# EAGLE library part RX-AUDIO-2.4 (library aurel)
MODULE, RECEIVER, 2.4GHZ, AUDIO Development Tool Type: Hardware - Module Kit Features: 2.5GHz Frequency, Compatible with Digital Audio Transmitter TX-AUDIO-2.4 Tool / Board Application: Digital Audio Receiver Tool / Board Applications: Ideal to Drive Wireless Speaker, Home Theatre, Headphone Amplifier Type: Digital Audio Receiver url <http://ro.farnell.com/jsp/search/productdetail.jsp?SKU=1699493>
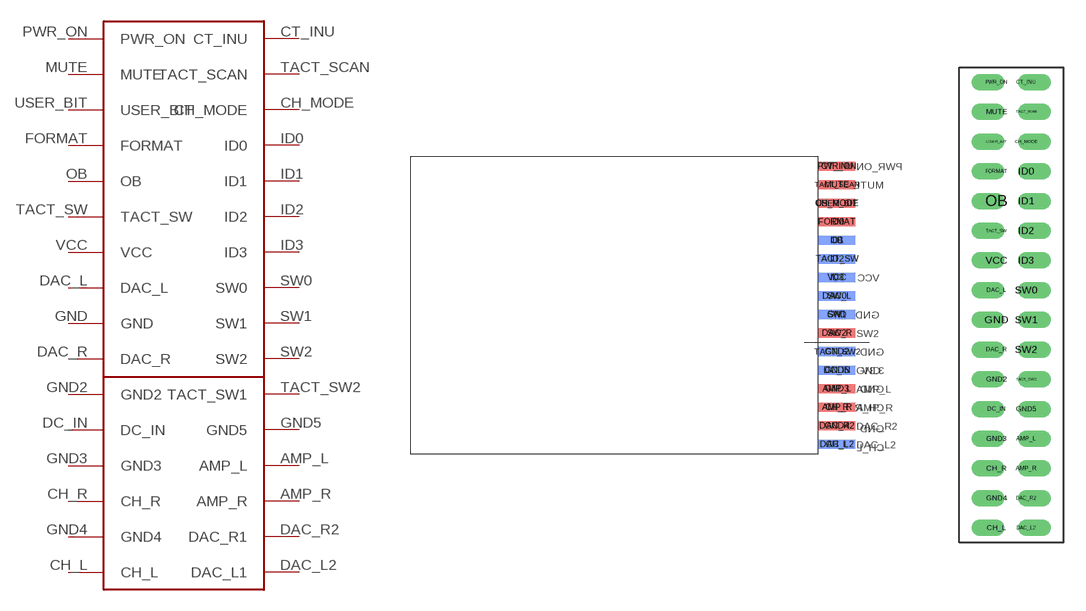
[diagram p1: symbol with the pads of AUREL-RX-AUDIO-2.4GHZ; footprints AUREL-RX-AUDIO-2.4GHZ, AUREL_RX-AUDIO-2.4GH-TRH]

Designator prefix -

## RX-AUDIO-2.4HORIZONTALHORIZONTAL  [AUREL-RX-AUDIO-2.4GHZ]
AMP_L  AMP_L
AMP_R  AMP_R
CH_L  CH_L
CH_MODE  CH_MODE
CH_R  CH_R
CT_INU  CT_INU
DAC_L  DAC_L
DAC_L2  DAC_L1
DAC_R  DAC_R
DAC_R2  DAC_R1
DC_IN  DC_IN
FORMAT  FORMAT
GND  GND
GND2  GND2
GND3  GND3
GND4  GND4
GND5  GND5
ID0  ID0
ID1  ID1
ID2  ID2
ID3  ID3
MUTE  MUTE
OB  OB
PWR_ON  PWR_ON
SW0  SW0
SW1  SW1
SW2  SW2
TACT_SCAN  TACT_SCAN
TACT_SW  TACT_SW
TACT_SW2  TACT_SW1
USER_BIT  USER_BIT
VCC  VCC

## RX-AUDIO-2.4VERTICAL  [AUREL_RX-AUDIO-2.4GH-TRH]
Pads as for AUREL-RX-AUDIO-2.4GHZ

## Footprint AUREL-RX-AUDIO-2.4GHZ (pad centres in mm)
smd 4 x 1: AMP_L 0,-9; AMP_R 0,-11; CH_MODE 0,11; CT_INU 0,15; DAC_L2 0,-15; DAC_R2 0,-13; GND5 0,-7; ID0 0,9; ID1 0,7; ID2 0,5; ID3 0,3; SW0 0,1; SW1 0,-1; SW2 0,-3; TACT_SCAN 0,13; TACT_SW2 0,-5
smd 4 x 1 bottom: CH_L 0,-15; CH_R 0,-11; DAC_L 0,1; DAC_R 0,-3; DC_IN 0,-7; FORMAT 0,9; GND 0,-1; GND2 0,-5; GND3 0,-9; GND4 0,-13; MUTE 0,13; OB 0,7; PWR_ON 0,15; TACT_SW 0,5; USER_BIT 0,11; VCC 0,3

## Footprint AUREL_RX-AUDIO-2.4GH-TRH (pad centres in mm)
drill 0.6 offset: AMP_L 1,-9; AMP_R 1,-11; CH_L -1,-15; CH_MODE 1,11; CH_R -1,-11; CT_INU 1,15; DAC_L -1,1; DAC_L2 1,-15; DAC_R -1,-3; DAC_R2 1,-13; DC_IN -1,-7; FORMAT -1,9; GND -1,-1; GND2 -1,-5; GND3 -1,-9; GND4 -1,-13; GND5 1,-7; ID0 1,9; ID1 1,7; ID2 1,5; ID3 1,3; MUTE -1,13; OB -1,7; PWR_ON -1,15; SW0 1,1; SW1 1,-1; SW2 1,-3; TACT_SCAN 1,13; TACT_SW -1,5; TACT_SW2 1,-5; USER_BIT -1,11; VCC -1,3